# EAGLE library part FIN1019MTCX (library Driver_Transceiver ICs)
IC TRANSCEIVER FULL 1/1 14TSSOP Manufacturer's datasheet <https://media.digikey.com/pdf/Data%20Sheets/Fairchild%20PDFs/FIN1019.pdf>
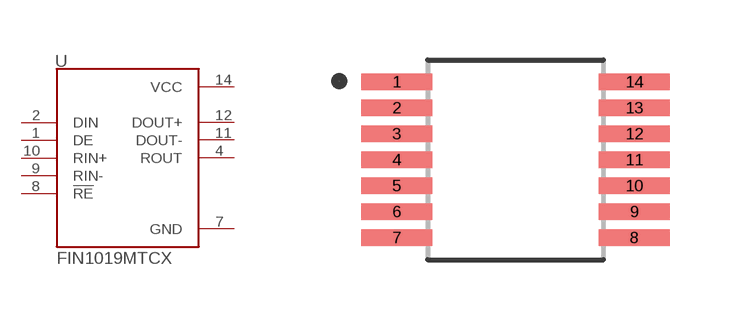
[diagram p8: symbol with the pads of TSSOP-14; footprint TSSOP-14]

Designator prefix U

## FIN1019MTCX (CREATED_BY: PCBLayout.com; DIGIKEY_PN: FIN1019MTCXTR-ND; MANUFACTURER: ON Semiconductor; MPN: FIN1019MTCX; PACKAGE: TSSOP-14)  [TSSOP-14]
1  DE  in
2  DIN  in
4  ROUT  out
7  GND  pwr
8  !RE  in
9  RIN-  in
10  RIN+  in
11  DOUT-  out
12  DOUT+  out
14  VCC  pwr

## Footprint TSSOP-14 (pad centres in mm)
smd 1.78 x 0.42: 1 -2.97,1.95; 2 -2.97,1.3; 3 -2.97,0.65; 4 -2.97,0; 5 -2.97,-0.65; 6 -2.97,-1.3; 7 -2.97,-1.95; 8 2.97,-1.95; 9 2.97,-1.3; 10 2.97,-0.65; 11 2.97,0; 12 2.97,0.65; 13 2.97,1.3; 14 2.97,1.95